# Altium schematic symbol library SCH - RF - IC - ST ST25R3916-AQWT.SCHLIB: 1 symbol
Pins are listed as number, name and electrical type; pins without a type are passive.

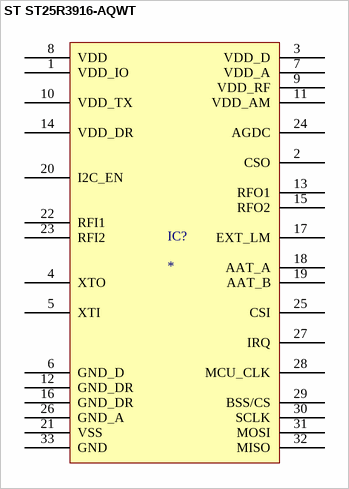
[diagram p0: symbol ST ST25R3916-AQWT]

## ST ST25R3916-AQWT
designator IC?
pins: 1 VDD_IO, 2 CSO, 3 VDD_D, 4 XTO, 5 XTI, 6 GND_D, 7 VDD_A, 8 VDD, 9 VDD_RF, 10 VDD_TX, 11 VDD_AM, 12 GND_DR, 13 RFO1, 14 VDD_DR, 15 RFO2, 16 GND_DR, 17 EXT_LM, 18 AAT_A, 19 AAT_B, 20 I2C_EN, 21 VSS, 22 RFI1, 23 RFI2, 24 AGDC, 25 CSI, 26 GND_A, 27 IRQ, 28 MCU_CLK, 29 BSS/CS, 30 SCLK, 31 MOSI, 32 MISO, 33 GND